# Altium schematic symbol library CE.Schlib: 1 symbol
Pins are listed as number, name and electrical type; pins without a type are passive.

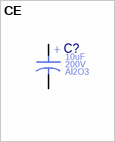
[diagram p0: symbol CE]

## CE
designator C?  Dielectric: Al2O3  Voltage Rating (DC): 200V  Capacitance: 10uF  (hidden comment: CE)
pins: 1, 2
2 alternate drawings of the same symbol
text: +